# Altium schematic symbol library NRP14-C12DH.SchLib: 1 symbol
Pins are listed as number, name and electrical type; pins without a type are passive.

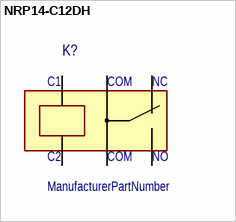
[diagram p0: symbol NRP14-C12DH]

## NRP14-C12DH
designator K?  (value not drawn)
ManufacturerPartNumber: ManufacturerPartNumber
pins: C1, C2, COM, COM, NC, NO